# Altium footprint library PH2119BBA.PcbLib: 1 footprints
Each footprint in its own frame and in the unit in brackets; x right, y up, seen from the top. Pads: shape width x height; smd on the part's side, far side on the other; paste and mask are expansions set on the pad; w line width, h text height; cw(c..) or ccw(c..) is an arc to the next point about the centre after c.
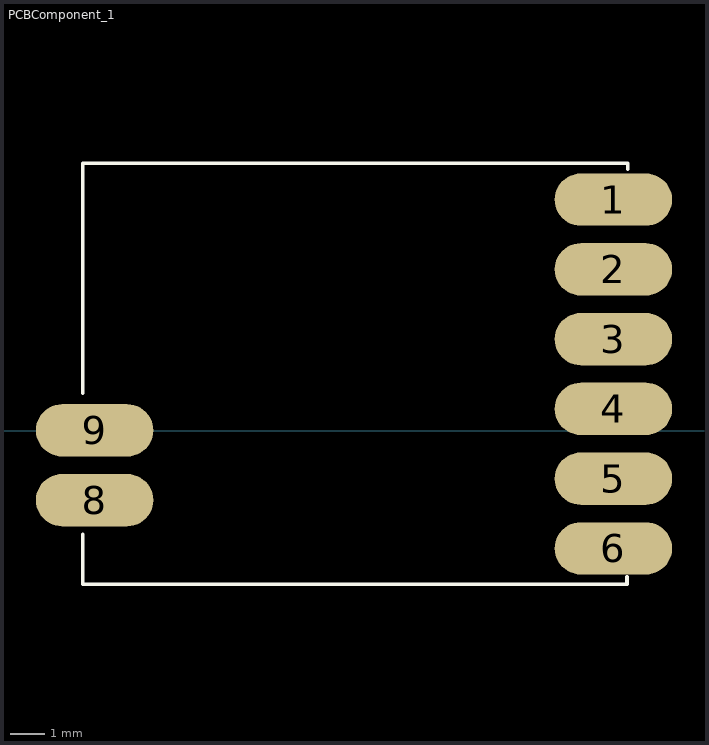
[diagram p0: the footprint, top view; thin cyan lines are the x and y axes]

## PCBComponent_1 [mm]
pads (8):
  oval 3.37x1.5 smd: 1(28.232,6.623) 2(28.232,4.623) 3(28.232,2.623) 4(28.232,0.623) 5(28.232,-1.377) 6(28.232,-3.377) 8(13.361,-1.993) 9(13.361,0.007)
Top Overlay:
  lines w0.102: 13.026,-2.976 13.026,-4.406 28.622,-4.406 28.622,-4.191 ; 13.026,1.071 13.026,7.659 28.647,7.659 28.647,7.493